# Altium schematic symbol library CAP_22pF_0603.SchLib: 1 symbol
Pins are listed as number, name and electrical type; pins without a type are passive.

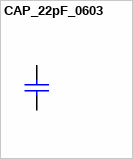
[diagram p0: symbol CAP_22pF_0603]

## CAP_22pF_0603
designator C?, comment CAP 22pF
22 pF ±5% 250V Ceramic Capacitor C0G, NP0 0603 (1608 Metric); Supplier 1: Digi-Key; Supplier Part Number 1: 311-3095-1-ND
footprint Cap_0603_M (Yageo KEMET Maximum Density (Level A) Footprint, reference at pate centre. Datasheet: https://www.yageogroup.com/content/datasheet/asset/file/KEM_C1006_X5R_SMD)
footprint Cap_0603_N (Yageo KEMET Nominal Density Footprint using Nominal Land Protusion (Level B), reference at pate centre. Datasheet: https://www.yageogroup.com/content/datasheet/asset/file/KEM_C1006_X5R_SMD)
pins: 1, 2